# Altium footprint library PcbLib2.PcbLib: 32 footprints (part 2 of 2)
Each footprint in its own frame and in the unit in brackets; x right, y up, seen from the top. Pads: shape width x height; smd on the part's side, far side on the other; paste and mask are expansions set on the pad; w line width, h text height; cw(c..) or ccw(c..) is an arc to the next point about the centre after c.
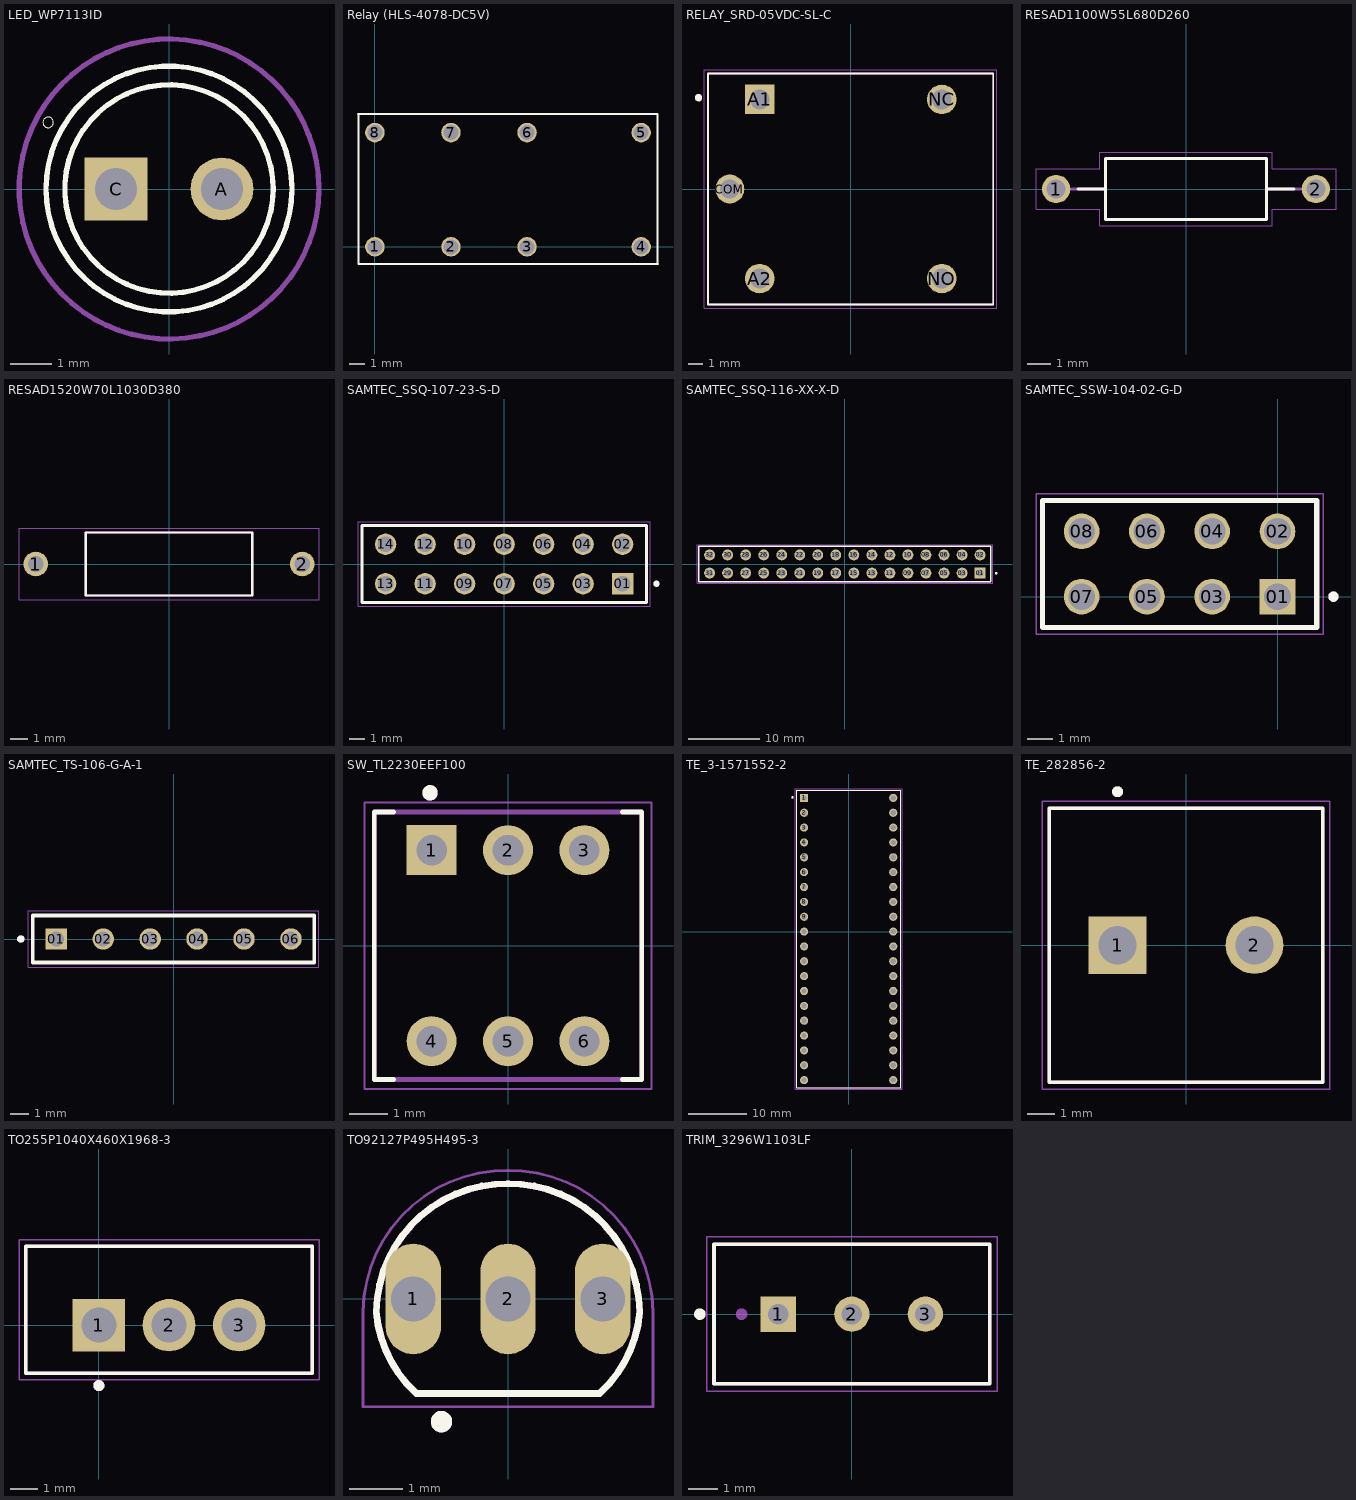
[diagram p1: the footprints below, top view; thin cyan lines are the x and y axes]

## LED_WP7113ID [mm]
pads (2):
  round 1.508 hole 1: A(1.27,0)
  rect 1.508x1.508 / inner round 1.508 / far side rect 1.508x1.508 hole 1: C(-1.27,0)
Top Overlay:
  circle w0.127: c0,0 r2.95
  circle w0.127: c0,0 r2.5
  circle w0: c-2.9,1.6 r0.127
Mechanical 15:
  circle w0.127: c0,0 r3.6
3D body "step_temp.STEP": height 9.6, standoff -26, extent -2.5,-2.95 2.95,2.95

## PCBComponent_1 [mil]

## Relay (HLS-4078-DC5V) [mm]
pads (8):
  round 1.3 hole 1: 1(0,0) 2(5.08,0) 3(10.16,0) 4(17.78,0) 5(17.78,7.62) 6(10.16,7.62) 7(5.08,7.62) 8(0,7.62)
Top Overlay:
  lines w0.127: -1.125,8.85 18.875,8.851 ; -1.103,-1.139 -1.103,8.76 ; -1.1,-1.14 18.9,-1.139 ; 18.878,-1.049 18.878,8.85
3D body: height 10, standoff 0, extent -1.108,-1.126 18.838,8.8

## RELAY_SRD-05VDC-SL-C [mm]
pads (5):
  rect 1.98x1.98 / inner round 1.98 / far side rect 1.98x1.98 hole 1.32: A1(-6.1,6)
  round 1.98 hole 1.32: A2(-6.1,-6) NC(6.1,6) NO(6.1,-6)
  round 1.935 hole 1.29: COM(-8.1,0)
Top Overlay:
  circle w0.3: c-10.2,6.119 r0.1
  lines w0.127: -9.55,-7.75 -9.55,7.75 9.55,7.75 9.55,-7.75 -9.55,-7.75
Mechanical 13:
  lines w0.127: -9.55,-7.75 -9.55,7.75 9.55,7.75 9.55,-7.75 -9.55,-7.75
Mechanical 15:
  lines w0.05: -9.8,-8 -9.8,8 9.8,8 9.8,-8 -9.8,-8
3D body "step_temp.STEP": height 15.8, standoff -3, extent -9.727,-7.927 9.473,7.673

## RESAD1100W55L680D260 [mm]
pads (2):
  round 1.2 hole 0.8: 1(-5.5,0) 2(5.5,0)
Top Overlay:
  lines w0.127: -4.58,0 -3.4,0 ; 4.58,0 3.4,0 ; -3.4,0 -3.4,-1.3 3.4,-1.3 3.4,0 ; -3.4,0 -3.4,1.3 3.4,1.3 3.4,0
Mechanical 13:
  lines w0.127: -4.9,0 -3.4,0 ; 4.9,0 3.4,0 ; -3.4,0 -3.4,-1.3 3.4,-1.3 3.4,0 ; -3.4,0 -3.4,1.3 3.4,1.3 3.4,0
Mechanical 15:
  lines w0.05: -6.35,-0.85 -6.35,0.85 -3.65,0.85 -3.65,1.55 3.65,1.55 3.65,0.85 6.35,0.85 6.35,-0.85 3.65,-0.85 3.65,-1.55 -3.65,-1.55 -3.65,-0.85 -6.35,-0.85

## RESAD1520W70L1030D380 [mm]
height 3.8
pads (2):
  round 1.408 hole 0.9: 1(-7.6,0) 2(7.6,0)
Top Overlay:
  lines w0.127: -4.75,-1.8 -4.75,1.8 4.75,1.8 4.75,-1.8 -4.75,-1.8
Mechanical 13:
  lines w0.127: -4.75,-1.8 -4.75,1.8 4.75,1.8 4.75,-1.8 -4.75,-1.8
Mechanical 15:
  lines w0.05: -8.554,-2.05 8.554,-2.05 8.554,2.05 -8.554,2.05 -8.554,-2.05
3D body "step_temp.STEP": height 1.4, standoff -1.4, extent -6.554,-1.527 6.046,1.273

## SAMTEC_SSQ-107-23-S-D [mm]
pads (14):
  rect 1.37x1.37 hole 1.02: 01(7.62,-1.27)
  round 1.37 hole 1.02: 02(7.62,1.27) 03(5.08,-1.27) 04(5.08,1.27) 05(2.54,-1.27) 06(2.54,1.27) 07(0,-1.27) 08(0,1.27) 09(-2.54,-1.27) 10(-2.54,1.27) 11(-5.08,-1.27) 12(-5.08,1.27) 13(-7.62,-1.27) 14(-7.62,1.27)
Top Overlay:
  circle w0.2: c9.795,-1.27 r0.1
  lines w0.2: -9.145,-2.475 -9.145,2.475 9.145,2.475 9.145,-2.475 -9.145,-2.475
Mechanical 13:
  circle w0.2: c9.795,-1.27 r0.1
  lines w0.1: -9.145,-2.475 -9.145,2.475 ; -9.145,-2.475 9.145,-2.475 ; -9.145,-2.475 -9.145,2.475 ; -9.145,2.475 9.145,2.475 ; -9.145,2.475 9.145,2.475 ; 9.145,-2.475 9.145,2.475 ; 9.145,-2.475 9.145,2.475
Mechanical 15:
  lines w0.05: -9.395,-2.725 -9.395,2.725 9.395,2.725 9.395,-2.725 -9.395,-2.725

## SAMTEC_SSQ-116-XX-X-D [mm]
pads (32):
  rect 1.53x1.53 hole 1.02: 01(19.05,-1.27)
  round 1.53 hole 1.02: 02(19.05,1.27) 03(16.51,-1.27) 04(16.51,1.27) 05(13.97,-1.27) 06(13.97,1.27) 07(11.43,-1.27) 08(11.43,1.27) 09(8.89,-1.27) 10(8.89,1.27) 11(6.35,-1.27) 12(6.35,1.27) 13(3.81,-1.27) 14(3.81,1.27) 15(1.27,-1.27) 16(1.27,1.27) 17(-1.27,-1.27) 18(-1.27,1.27) 19(-3.81,-1.27) 20(-3.81,1.27) 21(-6.35,-1.27) 22(-6.35,1.27) 23(-8.89,-1.27) 24(-8.89,1.27) 25(-11.43,-1.27) 26(-11.43,1.27) 27(-13.97,-1.27) 28(-13.97,1.27) 29(-16.51,-1.27) 30(-16.51,1.27) 31(-19.05,-1.27) 32(-19.05,1.27)
Top Overlay:
  circle w0.2: c21.335,-1.31 r0.1
  lines w0.2: -20.575,-2.475 20.575,-2.475 20.575,2.475 -20.575,2.475 -20.575,-2.475
Mechanical 13:
  circle w0.2: c21.335,-1.31 r0.1
  lines w0.1: -20.575,-2.475 20.575,-2.475 20.575,2.475 -20.575,2.475 -20.575,-2.475
Mechanical 15:
  lines w0.05: -20.825,-2.725 20.825,-2.725 20.825,2.725 -20.825,2.725 -20.825,-2.725

## SAMTEC_SSW-104-02-G-D [mm]
pads (8):
  rect 1.39x1.39 hole 1.04: 01(0,0)
  round 1.39 hole 1.04: 02(0,2.54) 03(-2.54,0) 04(-2.54,2.54) 05(-5.08,0) 06(-5.08,2.54) 07(-7.62,0) 08(-7.62,2.54)
Top Overlay:
  circle w0.2: c2.175,0 r0.1
  lines w0.2: -9.145,-1.206 1.525,-1.206 1.525,3.746 -9.145,3.746 -9.145,-1.206
Mechanical 13:
  circle w0.2: c2.175,0 r0.1
  lines w0.1: -9.145,-1.206 -9.145,3.746 ; -9.145,-1.206 1.525,-1.206 ; -9.145,-1.206 -9.145,3.746 ; -9.145,3.746 1.525,3.746 ; -9.145,3.746 1.525,3.746 ; 1.525,-1.206 1.525,3.746 ; 1.525,-1.206 1.525,3.746
Mechanical 15:
  lines w0.05: -9.395,-1.456 1.775,-1.456 1.775,3.996 -9.395,3.996 -9.395,-1.456

## SAMTEC_TS-106-G-A-1 [mil]
pads (6):
  rect 45.78x45.78 / inner round 45.78 / far side rect 45.78x45.78 hole 32: 01(-250,0)
  round 45.78 hole 32: 02(-150,0) 03(-50,0) 04(50,0) 05(150,0) 06(250,0)
Top Overlay:
  circle w7.87: c-325.59,0 r3.94
  lines w7.87: -300,-50 300,-50 300,50 -300,50 -300,-50
Mechanical 13:
  circle w7.87: c-325.59,0 r3.94
  lines w3.94: -300,-50 -300,50 ; -300,-50 300,-50 ; -300,-50 -300,50 ; -300,50 300,50 ; -300,50 300,50 ; 300,-50 300,50 ; 300,-50 300,50
Mechanical 15:
  lines w1.97: -309.84,-59.84 309.84,-59.84 309.84,59.84 -309.84,59.84 -309.84,-59.84
3D body "TS-106-G-A-1.stp": height 326, standoff -204, extent -304,-50 304,50

## SW_TL2230EEF100 [mm]
height 12.5
pads (6):
  rect 1.308x1.308 hole 0.8: 1(-2,2.5)
  round 1.308 hole 0.8: 2(0,2.5) 3(2,2.5) 4(-2,-2.5) 5(0,-2.5) 6(2,-2.5)
Top Overlay:
  circle w0.2: c-2.04,4 r0.1
  lines w0.127: -3,-3.5 -3.5,-3.5 -3.5,3.5 -3,3.5 ; 3,-3.5 3.5,-3.5 3.5,3.5 3,3.5
Mechanical 13:
  circle w0.2: c-2.04,4 r0.1
  lines w0.127: -3.5,-3.5 3.5,-3.5 3.5,3.5 -3.5,3.5 -3.5,-3.5
Mechanical 15:
  lines w0.05: -3.75,-3.75 3.75,-3.75 3.75,3.75 -3.75,3.75 -3.75,-3.75
3D body "TL2230EEF100--3DModel-STEP-613395.STEP": height 12.5, standoff -3.5, extent -3.5,-3.5 3.5,3.5

## TE_3-1571552-2 [mil]
pads (40):
  rect 55x55 hole 35: 1(-300,900)
  round 55 hole 35: 2(-300,800) 3(-300,700) 4(-300,600) 5(-300,500) 6(-300,400) 7(-300,300) 8(-300,200) 9(-300,100) 10(-300,0) 11(-300,-100) 12(-300,-200) 13(-300,-300) 14(-300,-400) 15(-300,-500) 16(-300,-600) 17(-300,-700) 18(-300,-800) 19(-300,-900) 20(-300,-1000) 21(300,-1000) 22(300,-900) 23(300,-800) 24(300,-700) 25(300,-600) 26(300,-500) 27(300,-400) 28(300,-300) 29(300,-200) 30(300,-100) 31(300,0) 32(300,100) 33(300,200) 34(300,300) 35(300,400) 36(300,500) 37(300,600) 38(300,700) 39(300,800) 40(300,900)
Top Overlay:
  circle w7.87: c-378.35,903.54 r3.94
  lines w5: -350,-1050 -350,950 350,950 350,-1050 -350,-1050
Mechanical 13:
  circle w7.87: c-378.35,903.54 r3.94
  lines w5: -350,-1050 -350,950 350,950 350,-1050 -350,-1050
Mechanical 15:
  lines w1.97: -359.84,-1059.84 -359.84,959.84 359.84,959.84 359.84,-1059.84 -359.84,-1059.84
3D body "3-1571552-2.stp": height 170, standoff -120, extent -353,-1046 343,950

## TE_282856-2 [mm]
pads (2):
  rect 2.1x2.1 / inner round 2.1 / far side rect 2.1x2.1 hole 1.4: 1(-2.5,0)
  round 2.1 hole 1.4: 2(2.5,0)
Top Overlay:
  circle w0.2: c-2.5,5.6 r0.1
  lines w0.127: -5,-5 5,-5 5,5 -5,5 -5,-5
Mechanical 13:
  circle w0.2: c-2.5,5.6 r0.1
  lines w0.127: -5,-5 5,-5 5,5 -5,5 -5,-5
Mechanical 15:
  lines w0.05: -5.25,-5.25 5.25,-5.25 5.25,5.25 -5.25,5.25 -5.25,-5.25
3D body "step_temp.STEP": height 19, standoff -3.5, extent -5,-5 5.5,5

## TO255P1040X460X1968-3 [mm]
pads (3):
  rect 1.91x1.91 / inner round 1.91 / far side rect 1.91x1.91 hole 1.27: 1(0,0)
  round 1.91 hole 1.27: 2(2.55,0) 3(5.1,0)
Top Overlay:
  circle w0.2: c0,-2.195 r0.1
  lines w0.127: -2.65,-1.74 7.75,-1.74 7.75,2.86 -2.65,2.86 -2.65,-1.74
Mechanical 13:
  circle w0.2: c0,-2.195 r0.1
  lines w0.127: -2.65,-1.74 7.75,-1.74 7.75,2.86 -2.65,2.86 -2.65,-1.74
Mechanical 15:
  lines w0.05: -2.9,-1.99 8,-1.99 8,3.106 -2.9,3.106 -2.9,-1.99
3D body "step_temp.STEP": height 19.68, standoff -10.34, extent -2.445,-1.524 7.525,2.921

## TO92127P495H495-3 [mm]
height 4.95
pads (3):
  oval 1.04x2.08 hole 0.84: 1(-1.778,0) 2(0,0) 3(1.778,0)
Top Overlay:
  circle w0.2: c-1.25,-2.305 r0.1
  lines w0.127: -2.476,-0.242 ccw(c-0.116,-0.036) -1.732,-1.769 ; -2.475,-0.24 cw(c-0.028,-0.282) 0.015,2.165 ; -1.725,-1.775 1.725,-1.775 ; -0.015,2.165 cw(c0.028,-0.282) 2.475,-0.24 ; 1.732,-1.769 ccw(c0.116,-0.036) 2.476,-0.242
Mechanical 13:
  circle w0.2: c-1.25,-2.305 r0.1
  lines w0.127: -2.476,-0.242 ccw(c-0.116,-0.036) -1.732,-1.769 ; -2.475,-0.24 cw(c-0.028,-0.282) 0.015,2.165 ; -1.725,-1.775 1.725,-1.775 ; -0.015,2.165 cw(c0.028,-0.282) 2.475,-0.24 ; 1.732,-1.769 ccw(c0.116,-0.036) 2.476,-0.242
Mechanical 15:
  lines w0.05: -2.725,-0.255 -2.725,-2.025 2.725,-2.025 2.725,-0.255 ; -2.725,-0.235 cw(c-0.028,-0.282) 0.02,2.415 ; -0.02,2.415 cw(c0.028,-0.282) 2.725,-0.235
3D body "step_temp.STEP": height 20.44, standoff 0, extent -2.276,-1.548 2.283,2.285

## TRIM_3296W1103LF [mm]
pads (3):
  rect 1.218x1.218 hole 0.71: 1(-2.54,0)
  round 1.218 hole 0.71: 2(0,0) 3(2.54,0)
Top Overlay:
  circle w0.2: c-5.25,0 r0.1
  lines w0.127: -4.765,-2.41 -4.765,2.42 4.765,2.42 4.765,-2.41 -4.765,-2.41
Mechanical 13:
  circle w0.2: c-3.81,0 r0.1
  lines w0.127: -4.765,-2.41 4.765,-2.41 4.765,2.42 -4.765,2.42 -4.765,-2.41
Mechanical 15:
  lines w0.05: -5.015,-2.66 5.015,-2.66 5.015,2.67 -5.015,2.67 -5.015,-2.66
3D body "3296W-1-103LF.step": height 11.55, standoff -7.72, extent -4.765,-2.41 4.765,2.42